# EAGLE library part THS3095 (library Jim)
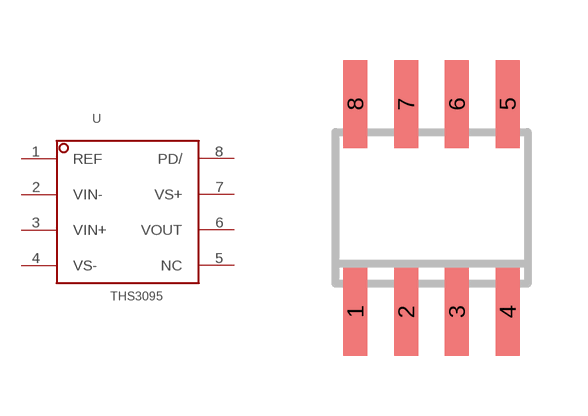
[diagram p19: symbol with the pads of SOIC-8; footprint SOIC-8]

Designator prefix -

## THS3095  [SOIC-8]
1  REF  in
2  VIN-  in
3  VIN+  in
4  VS-  pwr
5  NC  nc
6  VOUT  out
7  VS+  pwr
8  PD/  in

## Footprint SOIC-8 (pad centres in mm)
smd 0.6 x 2.2: 1 -1.905,-2.6; 2 -0.635,-2.6; 3 0.635,-2.6; 4 1.905,-2.6; 5 1.905,2.6; 6 0.635,2.6; 7 -0.635,2.6; 8 -1.905,2.6